# EAGLE library part LASSENIQ (library Placa_Arduino_Compatible)
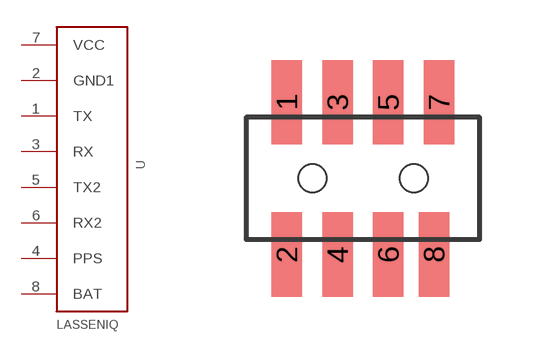
[diagram p30: symbol with the pads of TRIMBLE; footprint TRIMBLE]

Designator prefix -

## LASSENIQ  [TRIMBLE]
1  TX  out
2  GND1  sup
3  RX  in
4  PPS  out
5  TX2  out
6  RX2  in
7  VCC  sup
8  BAT  sup

## Footprint TRIMBLE (pad centres in mm)
smd 0.762 x 2.108: 1 -1.905,1.905; 2 -1.905,-1.905; 3 -0.635,1.905; 4 -0.635,-1.905; 5 0.635,1.905; 6 0.635,-1.905; 7 1.905,1.905; 8 1.778,-1.905
hole 0.7 at -1.27,0
hole 0.7 at 1.27,0